# EAGLE library part IFC-M (library EXCISS)
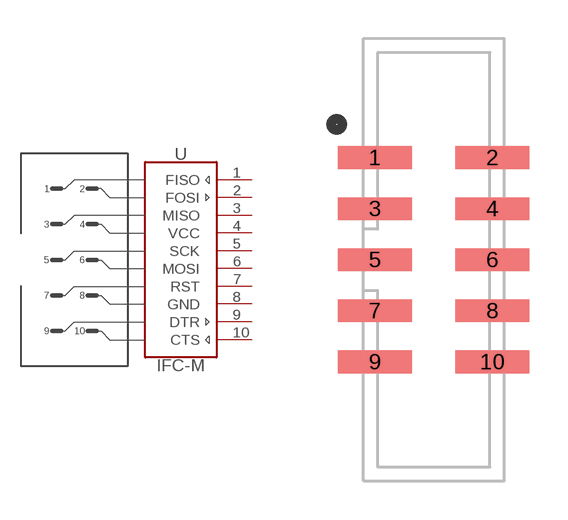
[diagram p16: symbol with the pads of BH2M-10-U; footprint BH2M-10-U]

Designator prefix -

## IFC-M  [BH2M-10-U]
1  FISO
2  FOSI
3  MISO
4  VCC  pwr
5  SCK
6  MOSI
7  RST
8  GND  pwr
9  DTR
10  CTS

## Footprint BH2M-10-U (pad centres in mm)
smd 2.9 x 0.89: 1 -2.3,4; 2 2.3,4; 3 -2.3,2; 4 2.3,2; 5 -2.3,0; 6 2.3,0; 7 -2.3,-2; 8 2.3,-2; 9 -2.3,-4; 10 2.3,-4